# Altium footprint library AT1521.PcbLib: 1 footprints
Each footprint in its own frame and in the unit in brackets; x right, y up, seen from the top. Pads: shape width x height; smd on the part's side, far side on the other; paste and mask are expansions set on the pad; w line width, h text height; cw(c..) or ccw(c..) is an arc to the next point about the centre after c.
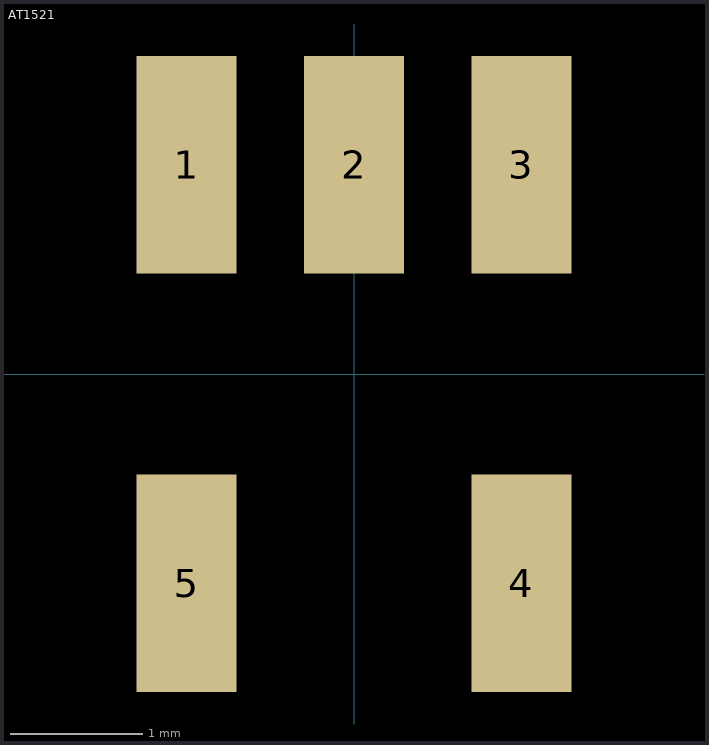
[diagram p0: the footprint, top view; thin cyan lines are the x and y axes]

## AT1521 [mm]
pads (5):
  rect 0.76x1.65 smd: 1(-1.27,1.587) 2(0,1.587) 3(1.27,1.587) 4(1.27,-1.587) 5(-1.27,-1.587)
3D body "User Library-macom-sm22.step": height 2.83, standoff 0, extent -1.905,-2.413 1.905,2.413